# Altium footprint library mainboardDory.PcbLib: 29 footprints (part 1 of 2)
Each footprint in its own frame and in the unit in brackets; x right, y up, seen from the top. Pads: shape width x height; smd on the part's side, far side on the other; paste and mask are expansions set on the pad; w line width, h text height; cw(c..) or ccw(c..) is an arc to the next point about the centre after c.
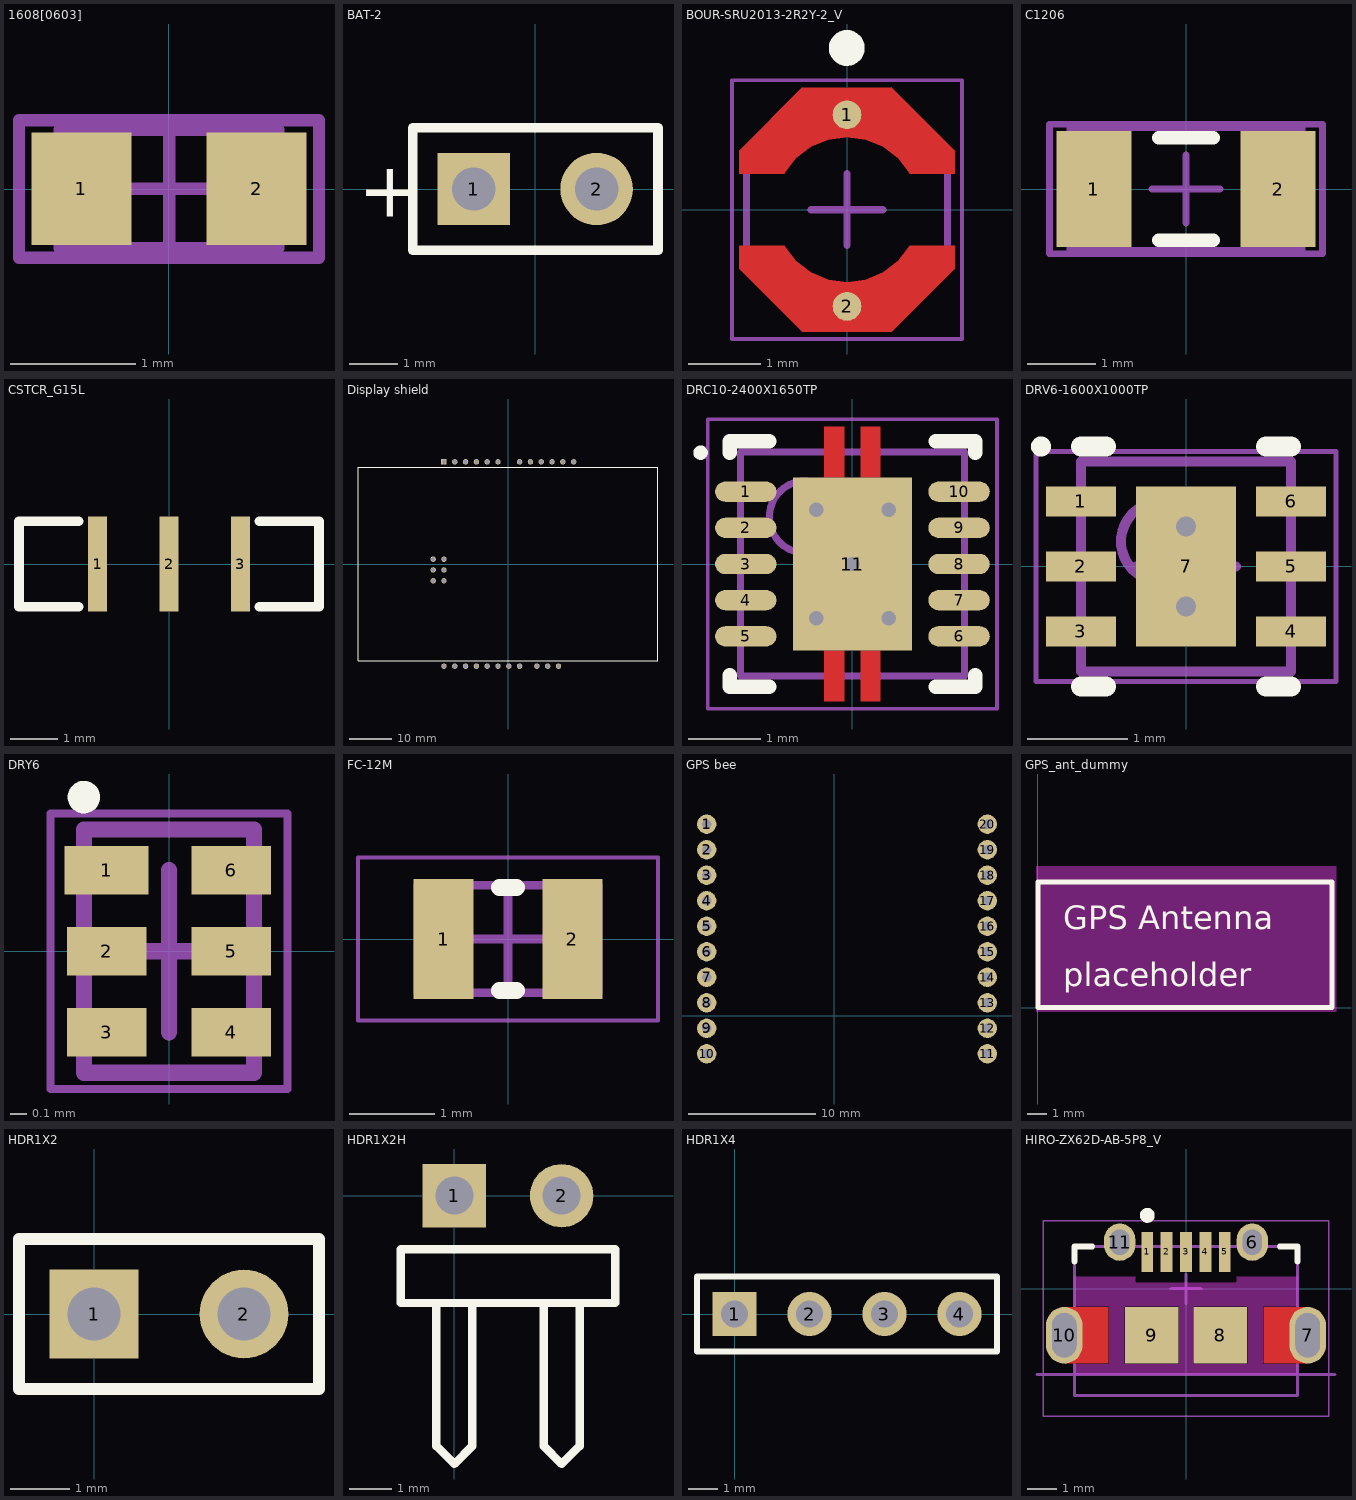
[diagram p0: the footprints below, top view; thin cyan lines are the x and y axes]

## 1608[0603] [mm] "Chip Capacitor, Body 1.6x0.8mm, IPC High Density"
height 1.3
pads (2):
  rect 0.8x0.9 smd: 1(-0.7,0) 2(0.7,0)
Mechanical 13:
  lines w0.1: -0.875,-0.475 -0.875,0.475 0.875,0.475 0.875,-0.475 -0.875,-0.475
Mechanical 15:
  lines w0.1: -0.475,0 0.475,0 ; 0,-0.475 0,0.475 ; -1.2,-0.55 -1.2,0.55 1.2,0.55 1.2,-0.55 -1.2,-0.55
3D body: height 1.3, standoff 0, extent -0.875,-0.475 0.875,0.475

## BAT-2 [mm] "Battery; 2 Leads"
pads (2):
  rect 1.5x1.5 hole 0.9: 1(-1.27,0)
  round 1.5 hole 0.9: 2(1.27,0)
Top Overlay:
  lines w0.2: -2.54,-1.27 -2.54,1.27 2.54,1.27 2.54,-1.27 -2.54,-1.27
  text "+" at -3.67,-0.577 h1.15

## BOUR-SRU2013-2R2Y-2_V [mm] "Hand Drawn, 2-Leads, Body 2.8x2.8mm"
height 1.5
pads (2):
  round 0.4 smd: 1(0,1.321) 2(0,-1.346)
Top Layer:
  region: 1.5,-0.5 1.5,-0.82 0.62,-1.7 -0.62,-1.7 -1.5,-0.82 -1.5,-0.5 -0.866,-0.5 -0.87,-0.502 -0.866,-0.5 -0.873,-0.504 -0.713,-0.713 -0.504,-0.873 -0.261,-0.974 0,-1.008 0.261,-0.974 0.504,-0.873 0.713,-0.713 0.873,-0.504 0.868,-0.501 0.866,-0.5
  region: -1.5,0.5 -1.5,0.82 -0.62,1.7 0.62,1.7 1.5,0.82 1.5,0.5 0.866,0.5 0.872,0.504 0.866,0.5 0.873,0.504 0.713,0.713 0.504,0.873 0.261,0.974 0,1.008 -0.261,0.974 -0.504,0.873 -0.713,0.713 -0.873,0.504 -0.87,0.502 -0.866,0.5
Top Overlay:
  circle w0.25: c-0.003,2.25 r0.125
Mechanical 13:
  lines w0.1: -1.4,-0.58 -0.58,-1.4 0.58,-1.4 1.4,-0.58 1.4,0.58 0.58,1.4 -0.58,1.4 -1.4,0.58 -1.4,-0.58
Mechanical 15:
  lines w0.05: -1.6,-1.8 -1.6,1.8 1.6,1.8 1.6,-1.8 -1.6,-1.8
  lines w0.1: -0.5,0 0.5,0 ; 0,-0.5 0,0.5 ; 0,-0.432 0,-0.381
3D body: height 1.5, standoff 0, extent -1.4,-1.4 1.4,1.4

## C1206 [mm] "Chip Capacitor, Body 3.2x1.6mm, IPC High Density"
height 1.3
pads (2):
  rect 1.1x1.7 smd: 1(-1.35,0) 2(1.35,0)
Top Overlay:
  lines w0.2: -0.4,-0.75 0.4,-0.75 ; -0.4,0.75 0.4,0.75
Mechanical 13:
  lines w0.1: -1.7,-0.9 1.7,-0.9 1.7,0.9 -1.7,0.9 -1.7,-0.9
Mechanical 15:
  lines w0.1: -0.5,0 0.5,0 ; 0,-0.5 0,0.5 ; -2,-0.95 2,-0.95 2,0.95 -2,0.95 -2,-0.95
3D body: height 1.3, standoff 0, extent -1.7,-0.9 1.7,0.9

## CSTCR_G15L [mm]
pads (3):
  rect 0.4x2 smd: 1(-1.5,0) 2(0,0) 3(1.5,0)
Top Overlay:
  lines w0.2: -1.9,-0.9 -3.15,-0.9 -3.15,0.9 -1.9,0.9 ; 1.9,-0.9 3.15,-0.9 3.15,0.9 1.9,0.9

## Display shield [mil]
pads (29):
  round 50 hole 39: 3V3(507.5,945) 5V(407.5,945) A0(-92.5,945) A1(-192.5,945) A2(-292.5,945) A3(-392.5,945) A4(-492.5,945) D0(-592.5,-945) D1(-492.5,-945) D2(-392.5,-945) D3(-292.5,-945) D4(-192.5,-945) D5(-92.5,-945) D6(7.5,-945) D7(107.5,-945) D8(267.5,-945) D9(367.5,-945) D10(467.5,-945) GND0(207.5,945) GND1(307.5,945) GND2(-692.5,45) MISO(-592.5,-155) MOSI(-692.5,-55) NC0(-692.5,-155) NC1(-592.5,45) RST(607.5,945) SCK(-592.5,-55) VIN(107.5,945)
  rect 50x50 hole 39: A5(-592.5,945)
Top Overlay:
  lines w10: -1387.5,-895 -1387.5,895 1387.5,895 1387.5,-895 -1387.5,-895

## DRC10-2400X1650TP [mm] "SON, 10-Leads, Body 3x3mm, Pitch 0.5mm, Thermal Pad 2.4x1.65mm, TI Recommended"
height 1
pads (11):
  oval 0.85x0.28 smd paste-0.025 mask+0.07: 1(-1.475,1) 2(-1.475,0.5) 3(-1.475,0) 4(-1.475,-0.5) 5(-1.475,-1) 6(1.475,-1) 7(1.475,-0.5) 8(1.475,0) 9(1.475,0.5) 10(1.475,1)
  rect 1.65x2.4 smd paste-0.825 mask+0.07: 11(0,0)
via -0.5,0.75 diameter 0.5 hole 0.2
via 0,0 diameter 0.5 hole 0.2
via 0.5,0.75 diameter 0.5 hole 0.2
via -0.5,-0.75 diameter 0.5 hole 0.2
via 0.5,-0.75 diameter 0.5 hole 0.2
Top Layer:
  rectangle: -0.391,1.2 -0.111,1.9
  region: 0.389,1.9 0.109,1.9 0.109,1.2 0.389,1.2
  rectangle: -0.391,-1.9 -0.111,-1.2
  region: 0.389,-1.2 0.109,-1.2 0.109,-1.9 0.389,-1.9
Top Overlay:
  circle w0.1: c-2.1,1.54 r0.05
  lines w0.2: -1.7,-1.54 -1.7,-1.7 -1.15,-1.7 ; -1.7,1.54 -1.7,1.7 -1.15,1.7 ; 1.15,-1.7 1.7,-1.7 1.7,-1.54 ; 1.15,1.7 1.7,1.7 1.7,1.54
Top Paste:
  rectangle: -0.38,1.38 -0.12,1.88
  rectangle: -0.79,0.11 -0.11,1.16
  region: 0.38,1.88 0.12,1.88 0.12,1.38 0.38,1.38
  region: 0.79,1.16 0.11,1.16 0.11,0.11 0.79,0.11
  rectangle: -0.79,-1.16 -0.11,-0.11
  rectangle: -0.38,-1.88 -0.12,-1.38
  region: 0.38,-1.38 0.12,-1.38 0.12,-1.88 0.38,-1.88
  region: 0.79,-0.11 0.11,-0.11 0.11,-1.16 0.79,-1.16
Mechanical 13:
  circle w0.1: c-0.65,0.65 r0.5
  lines w0.1: -1.55,-1.55 -1.55,1.55 1.55,1.55 1.55,-1.55 -1.55,-1.55
Mechanical 15:
  lines w0.05: -2,-2 -2,2 2,2 2,-2 -2,-2
3D body: height 1, standoff 0, extent -1.55,-1.55 1.55,1.55

## DRV6-1600X1000TP [mm] "SON, 6-Leads, Body 2x2mm, Pitch 0.65mm, Thermal Pad 1.6x1mm, TI Recommended"
height 0.8
pads (7):
  rect 0.7x0.3 smd paste-0.025 mask+0.07: 1(-1.05,0.65) 2(-1.05,0) 3(-1.05,-0.65) 4(1.05,-0.65) 5(1.05,0) 6(1.05,0.65)
  rect 1x1.6 smd paste-0.5 mask+0.07: 7(0,0)
via 0,-0.4 diameter 0.5 hole 0.2
via 0,0.4 diameter 0.5 hole 0.2
Top Overlay:
  circle w0.1: c-1.45,1.2 r0.05
  lines w0.2: -1.05,-1.2 -0.8,-1.2 ; -1.05,1.2 -0.8,1.2 ; 0.8,-1.2 1.05,-1.2 ; 0.8,1.2 1.05,1.2
Top Paste:
  rectangle: -0.4,-0.7 0.4,0.7
Mechanical 13:
  circle w0.1: c-0.25,0.25 r0.4
  lines w0.1: -1.05,-1.05 -1.05,1.05 1.05,1.05 1.05,-1.05 -1.05,-1.05
Mechanical 15:
  lines w0.05: -1.5,-1.15 -1.5,1.15 1.5,1.15 1.5,-1.15 -1.5,-1.15
  lines w0.1: -0.5,0 0.5,0 ; 0,-0.5 0,0.5
3D body: height 0.8, standoff 0, extent -1.05,-1.05 1.05,1.05

## DRY6 [mm] "PSON, 6-Leads, Body 1x1.45mm, Pitch 0.5mm, TI Recommended"
height 0.6
pads (6):
  rect 0.52x0.3 smd paste+0 mask+0.05: 1(-0.385,0.5)
  rect 0.49x0.3 smd paste+0 mask+0.05: 2(-0.385,0) 3(-0.385,-0.5) 4(0.385,-0.5) 5(0.385,0) 6(0.385,0.5)
Top Overlay:
  circle w0.1: c-0.525,0.95 r0.05
Mechanical 13:
  lines w0.1: -0.525,-0.75 -0.525,0.75 0.525,0.75 0.525,-0.75 -0.525,-0.75
Mechanical 15:
  lines w0.05: -0.73,-0.85 -0.73,0.85 0.73,0.85 0.73,-0.85 -0.73,-0.85
  lines w0.1: -0.5,0 0.5,0 ; 0,-0.5 0,0.5
3D body: height 0.6, standoff 0, extent -0.525,-0.75 0.525,0.75

## FC-12M [mm] "Epson kHz range crystal unit"
height 0.6
pads (2):
  rect 0.7x1.4 smd: 1(-0.75,0) 2(0.75,0)
Top Overlay:
  lines w0.2: -0.1,-0.6 0.1,-0.6 ; -0.1,0.6 0.1,0.6
Mechanical 13:
  lines w0.1: -1.05,-0.625 -1.05,0.625 1.05,0.625 1.05,-0.625 -1.05,-0.625
Mechanical 15:
  lines w0.05: -1.75,-0.95 -1.75,0.95 1.75,0.95 1.75,-0.95 -1.75,-0.95
  lines w0.1: -0.5,0 0.5,0 ; 0,-0.5 0,0.5
3D body: height 0.6, standoff 0, extent -1.05,-0.625 -0.35,0.625
3D body: height 0.6, standoff 0, extent -0.35,-0.625 0.35,0.625
3D body: height 0.6, standoff 0, extent 0.35,-0.625 1.05,0.625

## GPS bee [mil]
pads (20):
  round 60 hole 30: 1(-393.7,590.55) 2(-393.7,511.81) 3(-393.7,433.07) 4(-393.7,354.33) 5(-393.7,275.59) 6(-393.7,196.85) 7(-393.7,118.11) 8(-393.7,39.37) 9(-393.7,-39.37) 10(-393.7,-118.11) 11(472.44,-118.11) 12(472.44,-39.37) 13(472.44,39.37) 14(472.44,118.11) 15(472.44,196.85) 16(472.44,275.59) 17(472.44,354.33) 18(472.44,433.07) 19(472.44,511.81) 20(472.44,590.55)
3D body: height 137.8, standoff -157.48, extent -442.92,-202.75 521.65,895.67

## GPS_ant_dummy [mm]
height 15
Top Overlay:
  lines w0.254: 0,0 15,0 15,6.4 0,6.4 0,0
  text "GPS Antenna" at 1.3,4 h1.2
  text "placeholder" at 1.3,1.1 h1.2
Keep-Out Layer:
  board cut-out: -0.1,-0.2 15.2,-0.2 15.2,7.2 -0.1,7.2
3D body: height 8, standoff -7, extent 0,0 15,6.4

## HDR1X2 [mm] "Connector; Header; 2 Position"
pads (2):
  rect 1.5x1.5 hole 0.9: 1(0,0)
  round 1.5 hole 0.9: 2(2.54,0)
Top Overlay:
  lines w0.2: -1.27,-1.27 3.81,-1.27 3.81,1.27 -1.27,1.27 -1.27,-1.27

## HDR1X2H [mm] "Connector; Header; 2 Position; Right Angle"
pads (2):
  rect 1.5x1.5 hole 0.9: 1(0,0)
  round 1.5 hole 0.9: 2(2.54,0)
Top Overlay:
  lines w0.2: -0.423,-2.54 -0.423,-5.927 0,-6.35 0.423,-5.927 0.423,-2.54 ; 2.117,-2.54 2.117,-5.927 2.54,-6.35 2.963,-5.927 2.963,-2.54 ; -1.27,-2.54 3.81,-2.54 3.81,-1.27 -1.27,-1.27 -1.27,-2.54

## HDR1X4 [mm] "Connector; Header; 4 Position"
pads (4):
  rect 1.5x1.5 hole 0.9: 1(0,0)
  round 1.5 hole 0.9: 2(2.54,0) 3(5.08,0) 4(7.62,0)
Top Overlay:
  lines w0.2: -1.27,-1.27 8.89,-1.27 8.89,1.27 -1.27,1.27 -1.27,-1.27

## HIRO-ZX62D-AB-5P8_V [mm] "USB Micro-AB Connector, 5-Leads, Pitch 0.65mm"
height 2.8
pads (11):
  rect 0.4x1.35 smd: 1(-1.3,1.238) 2(-0.65,1.237) 3(0,1.238) 4(0.65,1.238) 5(1.3,1.238)
  oval 1.05x1.25 hole 0.65 slot 0.85 at 90 deg: 6(2.225,1.563) 11(-2.225,1.562)
  oval 1.225x1.9 hole 0.825 slot 1.5 at 90 deg: 7(4.088,-1.562) 10(-4.088,-1.562)
  rect 1.8x1.9 smd: 8(1.15,-1.562) 9(-1.15,-1.562)
Top Layer:
  rectangle: 2.6,-2.513 4.088,-0.613
  rectangle: -4.088,-2.512 -2.6,-0.612
Top Layer keep-out:
  rectangle: 1.7,-0.602 3.75,0.413
  region: 2.59,-0.601 2.06,-0.601 2.06,-2.521 2.59,-2.521
  rectangle: -1.7,-0.602 1.7,0.213
  rectangle: -3.75,-2.887 3.75,-2.523
  rectangle: -3.75,-0.604 -1.7,0.412
  rectangle: -0.24,-2.523 0.24,-0.603
  rectangle: -2.59,-2.522 -2.06,-0.602
Top Overlay:
  circle w0.25: c-1.3,2.463 r0.125
  lines w0.2: -3.75,0.91 -3.75,1.412 -3.149,1.412 ; 3.149,1.412 3.75,1.412 3.75,0.91
Mechanical 3:
  lines w0.1: -5,-2.888 5,-2.887
  text "board edge" at -7.112,-2.921 h0.2
Mechanical 13:
  lines w0.1: -3.75,-3.588 3.75,-3.587 3.75,1.413 -3.75,1.413 -3.75,-3.588
Mechanical 15:
  lines w0.05: -4.8,2.288 4.8,2.288 4.8,-4.286 -4.8,-4.286 -4.8,2.288
  lines w0.1: -0.5,0 0.5,0 ; 0,-0.5 0,0.5
3D body: height 2.25, standoff -0.85, extent -2.379,1.262 2.387,1.863
3D body: height 2.5, standoff -0.01, extent -3.754,0.213 3.757,1.413
3D body: height 2.51, standoff -0.01, extent -3.756,-3.587 3.757,0.213
3D body: height 0.25, standoff 0, extent -3.25,0.212 3.25,0.543
3D body: height 0.55, standoff -0.6, extent 3.603,-1.916 4.373,-1.065
3D body: height 1.79, standoff 0.71, extent 3.5,-4.188 4,-3.586
3D body: height 2.83, standoff 2.25, extent -3.05,-4.186 3.05,-3.586
3D body: height 0.25, standoff -0.32, extent -3.05,-4.186 3.05,-3.586
3D body: height 0.25, standoff 0, extent 1.15,0.541 1.457,1.685
3D body: height 0.25, standoff 0, extent 0.5,0.542 0.807,1.685
3D body: height 0.25, standoff 0, extent -0.15,0.542 0.157,1.685
3D body: height 0.25, standoff 0, extent -0.8,0.542 -0.493,1.685
3D body: height 2.5, standoff 2.25, extent -0.967,1.262 0.972,1.862
3D body: height 0.25, standoff 0, extent -1.45,0.542 -1.143,1.685
3D body: height 1.79, standoff 0.71, extent -4,-4.187 -3.5,-3.586
3D body: height 0.55, standoff -0.6, extent -4.373,-1.916 -3.603,-1.066